# EAGLE library part MAGJACK-LPJG19 (library pimoroni-connectors)
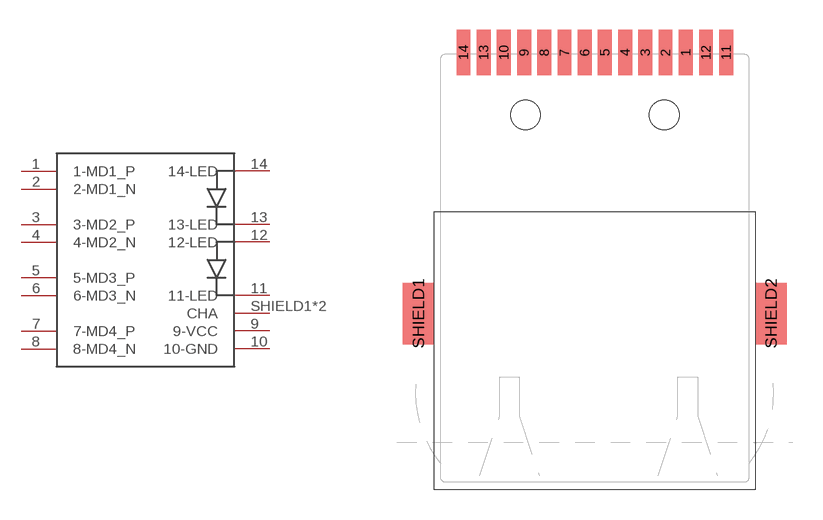
[diagram p31: symbol with the pads of MAGJACK-LPJG19; footprint MAGJACK-LPJG19]

Designator prefix -

## MAGJACK-LPJG19  [MAGJACK-LPJG19]
1  1-MD1_P
2  2-MD1_N
3  3-MD2_P
4  4-MD2_N
5  5-MD3_P
6  6-MD3_N
7  7-MD4_P
8  8-MD4_N
9  9-VCC
10  10-GND
11  11-LED
12  12-LED
13  13-LED
14  14-LED
SHIELD1  CHA
SHIELD2  CHA

## Footprint MAGJACK-LPJG19 (pad centres in mm)
smd 0.7 x 2.3: 1 4.59,21.7; 2 3.57,21.7; 3 2.55,21.7; 4 1.53,21.7; 5 0.51,21.7; 6 -0.51,21.7; 7 -1.53,21.7; 8 -2.55,21.7; 9 -3.57,21.7; 10 -4.59,21.7; 11 6.63,21.7; 12 5.61,21.7; 13 -5.61,21.7; 14 -6.63,21.7
smd 1.6 x 3.1: SHIELD1 -8.9,8.5; SHIELD2 8.9,8.5
hole 1.5 at -3.5,18.55
hole 1.5 at 3.5,18.55